# Altium schematic symbol library lm2596.SchLib: 1 symbol
Pins are listed as number, name and electrical type; pins without a type are passive.

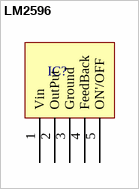
[diagram p0: symbol LM2596]

## LM2596
designator IC?, comment LM2596?  (value not drawn)
footprint PCBComponent_1
pins: 1 Vin, 2 OutPut, 3 Ground, 4 FeedBack, 5 ON'/OFF